# Altium integrated library Texas Instruments Interface RS-232.IntLib: 1272 symbols (part 34 of 37)
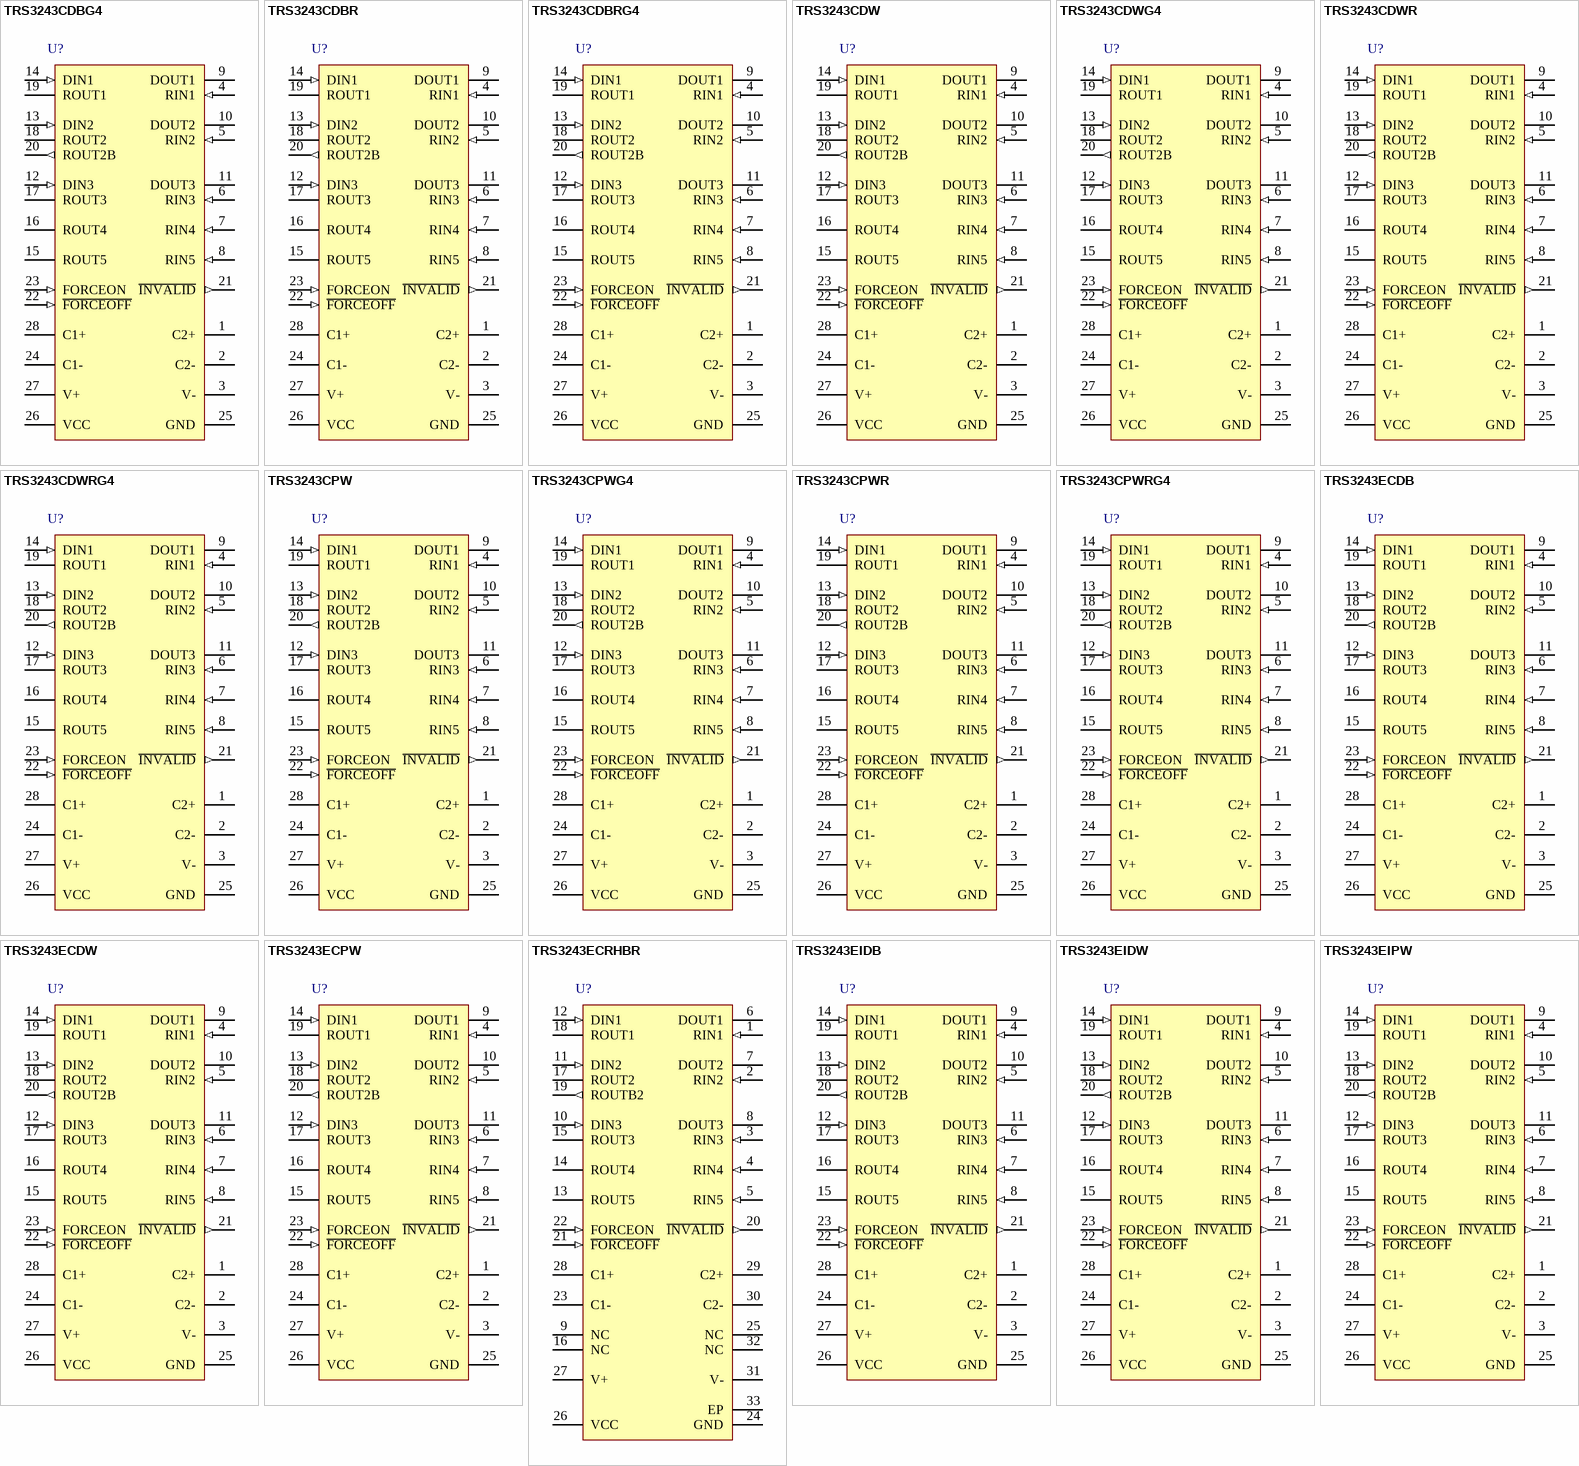
[diagram p87: symbols TRS3243CDBG4 to TRS3243EIPW]

## TRS3243CPWR
designator U?
3-V to 5.5-V Multichannel RS-232 Line Driver / Receiver with ±15-kV ESD (HBM) Protection, 0 to 70 degC, 28-Pin TSSOP (PW), Green (RoHS & no Sb/Br); Drivers Per Package: 3; Receivers Per Package: 5; Supply Voltage(s)(V): 3.3 or 5.0; ESD HBM(kV): +/-15; ICC(Max)(mA): 1; Single Supply: TRUE; DatasheetVersion: SLLS806; PackageVersion: revG, Feb-2011; PackageReference: PW28; PackageDescription: 28-Pin Plastic Thin Small Outline Package 9.7 x 4.4 mm Body ,0.65 mm Pitch; SubFamily: RS-232; RS-232: TRUE; ComponentLink1Description: Manufacturer URL; ComponentLink1URL: www.ti.com; ComponentLink2Description: Datasheet; ComponentLink2URL: http://www.ti.com/general/docs/lit/getliterature.tsp?genericPartNumber=TRS3243&fileType=pdf; ComponentLink3Description: Package Specification; ComponentLink3URL: http://www.ti.com/litv/pdf/mpds364
footprint TI-PW28_N (TSOP, 28-Leads, Body 9.7x4.4mm, Pitch 0.65mm, IPC Medium Density)
footprint TI-PW28_L (TSOP, 28-Leads, Body 9.7x4.4mm, Pitch 0.65mm, IPC High Density)
footprint TI-PW28_M (TSOP, 28-Leads, Body 9.7x4.4mm, Pitch 0.65mm, IPC Low Density)
pins: 1 C2+, 2 C2-, 3 V- (power), 4 RIN1 (in), 5 RIN2 (in), 6 RIN3 (in), 7 RIN4 (in), 8 RIN5 (in), 9 DOUT1 (hiz), 10 DOUT2 (hiz), 11 DOUT3 (hiz), 12 DIN3 (in), 13 DIN2 (in), 14 DIN1 (in), 15 ROUT5 (hiz), 16 ROUT4 (hiz), 17 ROUT3 (hiz), 18 ROUT2 (hiz), 19 ROUT1 (hiz), 20 ROUT2B (out), 21 ~{INVALID} (out), 22 ~{FORCEOFF} (in), 23 FORCEON (in), 24 C1-, 25 GND (power), 26 VCC (power), 27 V+ (power), 28 C1+

## TRS3243CPWRG4
designator U?
3-V to 5.5-V Multichannel RS-232 Line Driver / Receiver with ±15-kV ESD (HBM) Protection, 0 to 70 degC, 28-Pin TSSOP (PW), Green (RoHS & no Sb/Br); Drivers Per Package: 3; Receivers Per Package: 5; Supply Voltage(s)(V): 3.3 or 5.0; ESD HBM(kV): +/-15; ICC(Max)(mA): 1; Single Supply: TRUE; DatasheetVersion: SLLS806; PackageVersion: revG, Feb-2011; PackageReference: PW28; PackageDescription: 28-Pin Plastic Thin Small Outline Package 9.7 x 4.4 mm Body ,0.65 mm Pitch; SubFamily: RS-232; RS-232: TRUE; ComponentLink1Description: Manufacturer URL; ComponentLink1URL: www.ti.com; ComponentLink2Description: Datasheet; ComponentLink2URL: http://www.ti.com/general/docs/lit/getliterature.tsp?genericPartNumber=TRS3243&fileType=pdf; ComponentLink3Description: Package Specification; ComponentLink3URL: http://www.ti.com/litv/pdf/mpds364
footprint TI-PW28_N (TSOP, 28-Leads, Body 9.7x4.4mm, Pitch 0.65mm, IPC Medium Density)
footprint TI-PW28_L (TSOP, 28-Leads, Body 9.7x4.4mm, Pitch 0.65mm, IPC High Density)
footprint TI-PW28_M (TSOP, 28-Leads, Body 9.7x4.4mm, Pitch 0.65mm, IPC Low Density)
pins: 1 C2+, 2 C2-, 3 V- (power), 4 RIN1 (in), 5 RIN2 (in), 6 RIN3 (in), 7 RIN4 (in), 8 RIN5 (in), 9 DOUT1 (hiz), 10 DOUT2 (hiz), 11 DOUT3 (hiz), 12 DIN3 (in), 13 DIN2 (in), 14 DIN1 (in), 15 ROUT5 (hiz), 16 ROUT4 (hiz), 17 ROUT3 (hiz), 18 ROUT2 (hiz), 19 ROUT1 (hiz), 20 ROUT2B (out), 21 ~{INVALID} (out), 22 ~{FORCEOFF} (in), 23 FORCEON (in), 24 C1-, 25 GND (power), 26 VCC (power), 27 V+ (power), 28 C1+

## TRS3243ECDB
designator U?
3-V to 5.5-V Multichannel RS-232 Line Driver / Receiver with ±15-kV IEC ESD Protection, 0 to 70 degC, 28-Pin SSOP (DB), Green (RoHS & no Sb/Br); Drivers Per Package: 3; Receivers Per Package: 5; Supply Voltage(s)(V): 3.3 or 5.0; ESD HBM(kV): +/-15; ICC(Max)(mA): 1; Single Supply: TRUE; DatasheetVersion: SLLS789C; PackageVersion: revE, Dec-2001; PackageReference: DB28; PackageDescription: 28-Pin Plastic Small Outline Package, 10.2 x 5.3 mm Body, 0.65 mm Pitch; SubFamily: RS-232; RS-232: TRUE; IEC-61000-4-2 SUPPORT: TRUE; ComponentLink1Description: Manufacturer URL; ComponentLink1URL: www.ti.com; ComponentLink2Description: Datasheet; ComponentLink2URL: http://www.ti.com/general/docs/lit/getliterature.tsp?genericPartNumber=TRS3243E&fileType=pdf; ComponentLink3Description: Package Specification; ComponentLink3URL: http://www.ti.com/litv/pdf/msso002e
footprint TI-DB28_N (SOP, 28-Leads, Body 10.2x5.3mm, Pitch 0.65mm, IPC Medium Density)
footprint TI-DB28_L (SOP, 28-Leads, Body 10.2x5.3mm, Pitch 0.65mm, IPC High Density)
footprint TI-DB28_M (SOP, 28-Leads, Body 10.2x5.3mm, Pitch 0.65mm, IPC Low Density)
pins: 1 C2+, 2 C2-, 3 V- (power), 4 RIN1 (in), 5 RIN2 (in), 6 RIN3 (in), 7 RIN4 (in), 8 RIN5 (in), 9 DOUT1 (hiz), 10 DOUT2 (hiz), 11 DOUT3 (hiz), 12 DIN3 (in), 13 DIN2 (in), 14 DIN1 (in), 15 ROUT5 (hiz), 16 ROUT4 (hiz), 17 ROUT3 (hiz), 18 ROUT2 (hiz), 19 ROUT1 (hiz), 20 ROUT2B (out), 21 ~{INVALID} (out), 22 ~{FORCEOFF} (in), 23 FORCEON (in), 24 C1-, 25 GND (power), 26 VCC (power), 27 V+ (power), 28 C1+

## TRS3243ECDW
designator U?
3-V to 5.5-V Multichannel RS-232 Line Driver / Receiver with ±15-kV IEC ESD Protection, 0 to 70 degC, 28-Pin SOIC (DW), Green (RoHS & no Sb/Br); Drivers Per Package: 3; Receivers Per Package: 5; Supply Voltage(s)(V): 3.3 or 5.0; ESD HBM(kV): +/-15; ICC(Max)(mA): 1; Single Supply: TRUE; DatasheetVersion: SLLS789C; PackageVersion: revG, Jan-2011; PackageReference: DW28; PackageDescription: 28-Pin Plastic Small Outline Integrated Circuit, 17.9 x 7.5 mm, Pitch 1.27 mm Pitch; SubFamily: RS-232; RS-232: TRUE; IEC-61000-4-2 SUPPORT: TRUE; ComponentLink1Description: Manufacturer URL; ComponentLink1URL: www.ti.com; ComponentLink2Description: Datasheet; ComponentLink2URL: http://www.ti.com/general/docs/lit/getliterature.tsp?genericPartNumber=TRS3243E&fileType=pdf; ComponentLink3Description: Package Specification; ComponentLink3URL: http://www.ti.com/litv/pdf/mpds175a
footprint TI-DW28_N (SOIC, 28-Leads, Body 17.9x7.5mm, Pitch 1.27mm, IPC Medium Density)
footprint TI-DW28_L (SOIC, 28-Leads, Body 17.9x7.5mm, Pitch 1.27mm, IPC High Density)
footprint TI-DW28_M (SOIC, 28-Leads, Body 17.9x7.5mm, Pitch 1.27mm, IPC Low Density)
pins: 1 C2+, 2 C2-, 3 V- (power), 4 RIN1 (in), 5 RIN2 (in), 6 RIN3 (in), 7 RIN4 (in), 8 RIN5 (in), 9 DOUT1 (hiz), 10 DOUT2 (hiz), 11 DOUT3 (hiz), 12 DIN3 (in), 13 DIN2 (in), 14 DIN1 (in), 15 ROUT5 (hiz), 16 ROUT4 (hiz), 17 ROUT3 (hiz), 18 ROUT2 (hiz), 19 ROUT1 (hiz), 20 ROUT2B (out), 21 ~{INVALID} (out), 22 ~{FORCEOFF} (in), 23 FORCEON (in), 24 C1-, 25 GND (power), 26 VCC (power), 27 V+ (power), 28 C1+

## TRS3243ECPW
designator U?
3-V to 5.5-V Multichannel RS-232 Line Driver / Receiver with ±15-kV IEC ESD Protection, 0 to 70 degC, 28-Pin TSSOP (PW), Green (RoHS & no Sb/Br); Drivers Per Package: 3; Receivers Per Package: 5; Supply Voltage(s)(V): 3.3 or 5.0; ESD HBM(kV): +/-15; ICC(Max)(mA): 1; Single Supply: TRUE; DatasheetVersion: SLLS789C; PackageVersion: revG, Feb-2011; PackageReference: PW28; PackageDescription: 28-Pin Plastic Thin Small Outline Package 9.7 x 4.4 mm Body ,0.65 mm Pitch; SubFamily: RS-232; RS-232: TRUE; IEC-61000-4-2 SUPPORT: TRUE; ComponentLink1Description: Manufacturer URL; ComponentLink1URL: www.ti.com; ComponentLink2Description: Datasheet; ComponentLink2URL: http://www.ti.com/general/docs/lit/getliterature.tsp?genericPartNumber=TRS3243E&fileType=pdf; ComponentLink3Description: Package Specification; ComponentLink3URL: http://www.ti.com/litv/pdf/mpds364
footprint TI-PW28_N (TSOP, 28-Leads, Body 9.7x4.4mm, Pitch 0.65mm, IPC Medium Density)
footprint TI-PW28_L (TSOP, 28-Leads, Body 9.7x4.4mm, Pitch 0.65mm, IPC High Density)
footprint TI-PW28_M (TSOP, 28-Leads, Body 9.7x4.4mm, Pitch 0.65mm, IPC Low Density)
pins: 1 C2+, 2 C2-, 3 V- (power), 4 RIN1 (in), 5 RIN2 (in), 6 RIN3 (in), 7 RIN4 (in), 8 RIN5 (in), 9 DOUT1 (hiz), 10 DOUT2 (hiz), 11 DOUT3 (hiz), 12 DIN3 (in), 13 DIN2 (in), 14 DIN1 (in), 15 ROUT5 (hiz), 16 ROUT4 (hiz), 17 ROUT3 (hiz), 18 ROUT2 (hiz), 19 ROUT1 (hiz), 20 ROUT2B (out), 21 ~{INVALID} (out), 22 ~{FORCEOFF} (in), 23 FORCEON (in), 24 C1-, 25 GND (power), 26 VCC (power), 27 V+ (power), 28 C1+

## TRS3243ECRHBR
designator U?
3-V to 5.5-V Multichannel RS-232 Line Driver / Receiver with ±15-kV IEC ESD Protection, 0 to 70 degC, 32-Pin QFN (RHB), Green (RoHS & no Sb/Br); Drivers Per Package: 3; Receivers Per Package: 5; Supply Voltage(s)(V): 3.3 or 5.0; ESD HBM(kV): +/-15; ICC(Max)(mA): 1; Single Supply: TRUE; DatasheetVersion: SLLS789C; PackageVersion: revD, Jun-2011; PackageReference: RHB32-3450X3450TP; PackageDescription: 32-Pin Plastic Quad Flat No-Lead, 5 x 5 mm Body, 0.5 mm Pitch, 3.45 x 3.45 mm Exposed Pad; SubFamily: RS-232; RS-232: TRUE; IEC-61000-4-2 SUPPORT: TRUE; ComponentLink1Description: Manufacturer URL; ComponentLink1URL: www.ti.com; ComponentLink2Description: Datasheet; ComponentLink2URL: http://www.ti.com/general/docs/lit/getliterature.tsp?genericPartNumber=TRS3243E&fileType=pdf; ComponentLink3Description: Package Specification; ComponentLink3URL: http://www.ti.com/litv/pdf/mpqf130c
footprint TI-RHB32-3450X3450TP (QFN, 32-Leads, Body 5x5mm, Pitch 0.5mm, Thermal Pad 3.45x3.45mm, TI Recommended)
pins: 1 RIN1 (in), 2 RIN2 (in), 3 RIN3 (in), 4 RIN4 (in), 5 RIN5 (in), 6 DOUT1 (hiz), 7 DOUT2 (hiz), 8 DOUT3 (hiz), 9 NC, 10 DIN3 (in), 11 DIN2 (in), 12 DIN1 (in), 13 ROUT5 (hiz), 14 ROUT4 (hiz), 15 ROUT3 (hiz), 16 NC, 17 ROUT2 (hiz), 18 ROUT1 (hiz), 19 ROUTB2 (out), 20 ~{INVALID} (out), 21 ~{FORCEOFF} (in), 22 FORCEON (in), 23 C1-, 24 GND (power), 25 NC, 26 VCC (power), 27 V+ (power), 28 C1+, 29 C2+, 30 C2-, 31 V- (power), 32 NC, 33 EP (power)

## TRS3243EIDB
designator U?
3-V to 5.5-V Multichannel RS-232 Line Driver / Receiver with ±15-kV IEC ESD Protection, -40 to 85 degC, 28-Pin SSOP (DB), Green (RoHS & no Sb/Br); Drivers Per Package: 3; Receivers Per Package: 5; Supply Voltage(s)(V): 3.3 or 5.0; ESD HBM(kV): +/-15; ICC(Max)(mA): 1; Single Supply: TRUE; DatasheetVersion: SLLS789C; PackageVersion: revE, Dec-2001; PackageReference: DB28; PackageDescription: 28-Pin Plastic Small Outline Package, 10.2 x 5.3 mm Body, 0.65 mm Pitch; SubFamily: RS-232; RS-232: TRUE; IEC-61000-4-2 SUPPORT: TRUE; ComponentLink1Description: Manufacturer URL; ComponentLink1URL: www.ti.com; ComponentLink2Description: Datasheet; ComponentLink2URL: http://www.ti.com/general/docs/lit/getliterature.tsp?genericPartNumber=TRS3243E&fileType=pdf; ComponentLink3Description: Package Specification; ComponentLink3URL: http://www.ti.com/litv/pdf/msso002e
footprint TI-DB28_N (SOP, 28-Leads, Body 10.2x5.3mm, Pitch 0.65mm, IPC Medium Density)
footprint TI-DB28_L (SOP, 28-Leads, Body 10.2x5.3mm, Pitch 0.65mm, IPC High Density)
footprint TI-DB28_M (SOP, 28-Leads, Body 10.2x5.3mm, Pitch 0.65mm, IPC Low Density)
pins: 1 C2+, 2 C2-, 3 V- (power), 4 RIN1 (in), 5 RIN2 (in), 6 RIN3 (in), 7 RIN4 (in), 8 RIN5 (in), 9 DOUT1 (hiz), 10 DOUT2 (hiz), 11 DOUT3 (hiz), 12 DIN3 (in), 13 DIN2 (in), 14 DIN1 (in), 15 ROUT5 (hiz), 16 ROUT4 (hiz), 17 ROUT3 (hiz), 18 ROUT2 (hiz), 19 ROUT1 (hiz), 20 ROUT2B (out), 21 ~{INVALID} (out), 22 ~{FORCEOFF} (in), 23 FORCEON (in), 24 C1-, 25 GND (power), 26 VCC (power), 27 V+ (power), 28 C1+

## TRS3243EIDW
designator U?
3-V to 5.5-V Multichannel RS-232 Line Driver / Receiver with ±15-kV IEC ESD Protection, -40 to 85 degC, 28-Pin SOIC (DW), Green (RoHS & no Sb/Br); Drivers Per Package: 3; Receivers Per Package: 5; Supply Voltage(s)(V): 3.3 or 5.0; ESD HBM(kV): +/-15; ICC(Max)(mA): 1; Single Supply: TRUE; DatasheetVersion: SLLS789C; PackageVersion: revG, Jan-2011; PackageReference: DW28; PackageDescription: 28-Pin Plastic Small Outline Integrated Circuit, 17.9 x 7.5 mm, Pitch 1.27 mm Pitch; SubFamily: RS-232; RS-232: TRUE; IEC-61000-4-2 SUPPORT: TRUE; ComponentLink1Description: Manufacturer URL; ComponentLink1URL: www.ti.com; ComponentLink2Description: Datasheet; ComponentLink2URL: http://www.ti.com/general/docs/lit/getliterature.tsp?genericPartNumber=TRS3243E&fileType=pdf; ComponentLink3Description: Package Specification; ComponentLink3URL: http://www.ti.com/litv/pdf/mpds175a
footprint TI-DW28_N (SOIC, 28-Leads, Body 17.9x7.5mm, Pitch 1.27mm, IPC Medium Density)
footprint TI-DW28_L (SOIC, 28-Leads, Body 17.9x7.5mm, Pitch 1.27mm, IPC High Density)
footprint TI-DW28_M (SOIC, 28-Leads, Body 17.9x7.5mm, Pitch 1.27mm, IPC Low Density)
pins: 1 C2+, 2 C2-, 3 V- (power), 4 RIN1 (in), 5 RIN2 (in), 6 RIN3 (in), 7 RIN4 (in), 8 RIN5 (in), 9 DOUT1 (hiz), 10 DOUT2 (hiz), 11 DOUT3 (hiz), 12 DIN3 (in), 13 DIN2 (in), 14 DIN1 (in), 15 ROUT5 (hiz), 16 ROUT4 (hiz), 17 ROUT3 (hiz), 18 ROUT2 (hiz), 19 ROUT1 (hiz), 20 ROUT2B (out), 21 ~{INVALID} (out), 22 ~{FORCEOFF} (in), 23 FORCEON (in), 24 C1-, 25 GND (power), 26 VCC (power), 27 V+ (power), 28 C1+

## TRS3243EIPW
designator U?
3-V to 5.5-V Multichannel RS-232 Line Driver / Receiver with ±15-kV IEC ESD Protection, -40 to 85 degC, 28-Pin TSSOP (PW), Green (RoHS & no Sb/Br); Drivers Per Package: 3; Receivers Per Package: 5; Supply Voltage(s)(V): 3.3 or 5.0; ESD HBM(kV): +/-15; ICC(Max)(mA): 1; Single Supply: TRUE; DatasheetVersion: SLLS789C; PackageVersion: revG, Feb-2011; PackageReference: PW28; PackageDescription: 28-Pin Plastic Thin Small Outline Package 9.7 x 4.4 mm Body ,0.65 mm Pitch; SubFamily: RS-232; RS-232: TRUE; IEC-61000-4-2 SUPPORT: TRUE; ComponentLink1Description: Manufacturer URL; ComponentLink1URL: www.ti.com; ComponentLink2Description: Datasheet; ComponentLink2URL: http://www.ti.com/general/docs/lit/getliterature.tsp?genericPartNumber=TRS3243E&fileType=pdf; ComponentLink3Description: Package Specification; ComponentLink3URL: http://www.ti.com/litv/pdf/mpds364
footprint TI-PW28_N (TSOP, 28-Leads, Body 9.7x4.4mm, Pitch 0.65mm, IPC Medium Density)
footprint TI-PW28_L (TSOP, 28-Leads, Body 9.7x4.4mm, Pitch 0.65mm, IPC High Density)
footprint TI-PW28_M (TSOP, 28-Leads, Body 9.7x4.4mm, Pitch 0.65mm, IPC Low Density)
pins: 1 C2+, 2 C2-, 3 V- (power), 4 RIN1 (in), 5 RIN2 (in), 6 RIN3 (in), 7 RIN4 (in), 8 RIN5 (in), 9 DOUT1 (hiz), 10 DOUT2 (hiz), 11 DOUT3 (hiz), 12 DIN3 (in), 13 DIN2 (in), 14 DIN1 (in), 15 ROUT5 (hiz), 16 ROUT4 (hiz), 17 ROUT3 (hiz), 18 ROUT2 (hiz), 19 ROUT1 (hiz), 20 ROUT2B (out), 21 ~{INVALID} (out), 22 ~{FORCEOFF} (in), 23 FORCEON (in), 24 C1-, 25 GND (power), 26 VCC (power), 27 V+ (power), 28 C1+

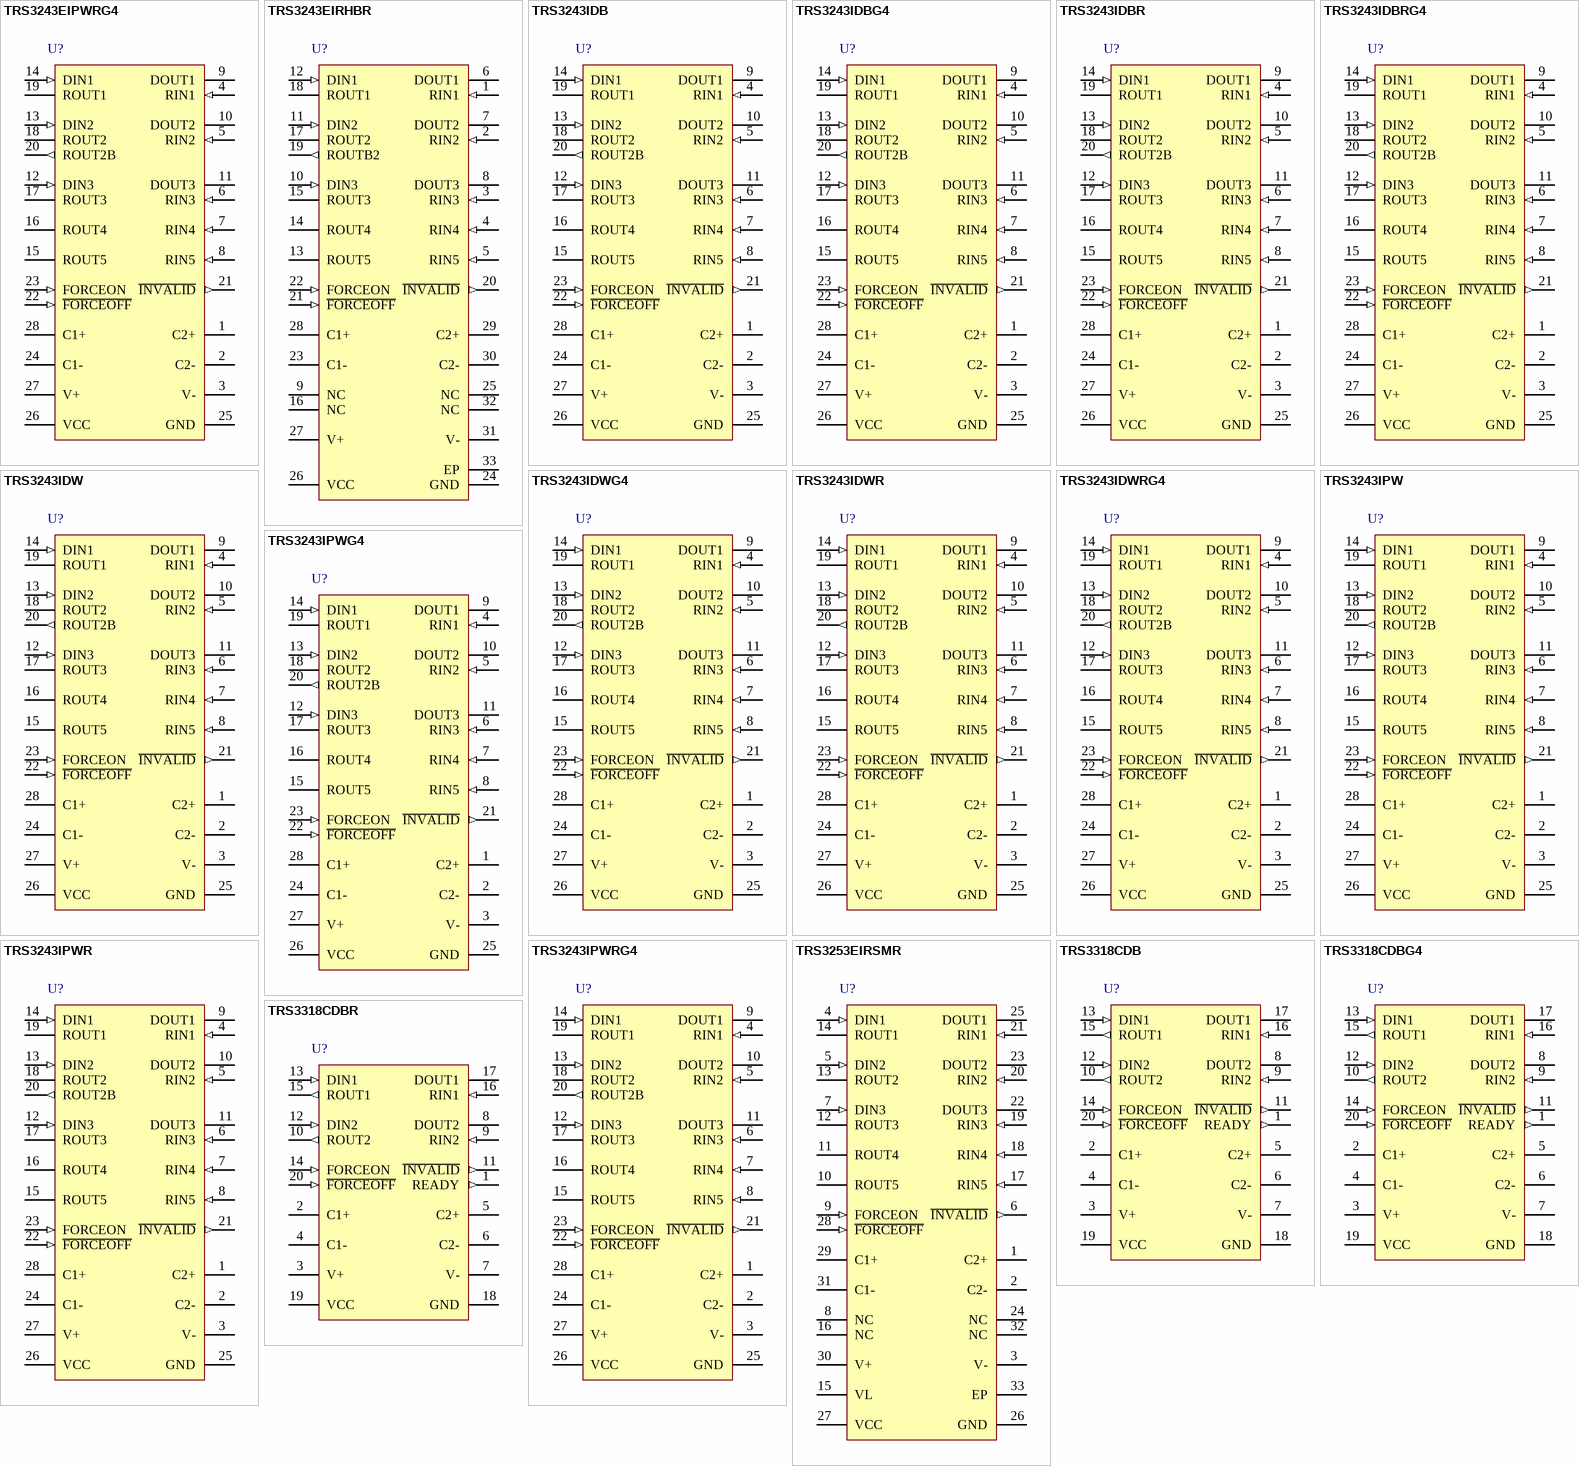
[diagram p50: symbols TRS3243EIPWRG4 to TRS3318CDBR]

## TRS3243EIPWRG4
designator U?
3-V to 5.5-V Multichannel RS-232 Line Driver / Receiver with ±15-kV IEC ESD Protection, -40 to 85 degC, 28-Pin TSSOP (PW) , Green (RoHS & no Sb/Br); Drivers Per Package: 3; Receivers Per Package: 5; Supply Voltage(s)(V): 3.3 or 5.0; ESD HBM(kV): +/-15; ICC(Max)(mA): 1; Single Supply: TRUE; DatasheetVersion: SLLS789C; PackageVersion: revG, Feb-2011; PackageReference: PW28; PackageDescription: 28-Pin Plastic Thin Small Outline Package 9.7 x 4.4 mm Body ,0.65 mm Pitch; SubFamily: RS-232; RS-232: TRUE; IEC-61000-4-2 SUPPORT: TRUE; ComponentLink1Description: Manufacturer URL; ComponentLink1URL: www.ti.com; ComponentLink2Description: Datasheet; ComponentLink2URL: http://www.ti.com/general/docs/lit/getliterature.tsp?genericPartNumber=TRS3243E&fileType=pdf; ComponentLink3Description: Package Specification; ComponentLink3URL: http://www.ti.com/litv/pdf/mpds364
footprint TI-PW28_N (TSOP, 28-Leads, Body 9.7x4.4mm, Pitch 0.65mm, IPC Medium Density)
footprint TI-PW28_L (TSOP, 28-Leads, Body 9.7x4.4mm, Pitch 0.65mm, IPC High Density)
footprint TI-PW28_M (TSOP, 28-Leads, Body 9.7x4.4mm, Pitch 0.65mm, IPC Low Density)
pins: 1 C2+, 2 C2-, 3 V- (power), 4 RIN1 (in), 5 RIN2 (in), 6 RIN3 (in), 7 RIN4 (in), 8 RIN5 (in), 9 DOUT1 (hiz), 10 DOUT2 (hiz), 11 DOUT3 (hiz), 12 DIN3 (in), 13 DIN2 (in), 14 DIN1 (in), 15 ROUT5 (hiz), 16 ROUT4 (hiz), 17 ROUT3 (hiz), 18 ROUT2 (hiz), 19 ROUT1 (hiz), 20 ROUT2B (out), 21 ~{INVALID} (out), 22 ~{FORCEOFF} (in), 23 FORCEON (in), 24 C1-, 25 GND (power), 26 VCC (power), 27 V+ (power), 28 C1+

## TRS3243EIRHBR
designator U?
3-V to 5.5-V Multichannel RS-232 Line Driver / Receiver with ±15-kV IEC ESD Protection, -40 to 85 degC, 32-Pin QFN (RHB), Green (RoHS & no Sb/Br); Drivers Per Package: 3; Receivers Per Package: 5; Supply Voltage(s)(V): 3.3 or 5.0; ESD HBM(kV): +/-15; ICC(Max)(mA): 1; Single Supply: TRUE; DatasheetVersion: SLLS789C; PackageVersion: revD, Jun-2011; PackageReference: RHB32-3450X3450TP; PackageDescription: 32-Pin Plastic Quad Flat No-Lead, 5 x 5 mm Body, 0.5 mm Pitch, 3.45 x 3.45 mm Exposed Pad; SubFamily: RS-232; RS-232: TRUE; IEC-61000-4-2 SUPPORT: TRUE; ComponentLink1Description: Manufacturer URL; ComponentLink1URL: www.ti.com; ComponentLink2Description: Datasheet; ComponentLink2URL: http://www.ti.com/general/docs/lit/getliterature.tsp?genericPartNumber=TRS3243E&fileType=pdf; ComponentLink3Description: Package Specification; ComponentLink3URL: http://www.ti.com/litv/pdf/mpqf130c
footprint TI-RHB32-3450X3450TP (QFN, 32-Leads, Body 5x5mm, Pitch 0.5mm, Thermal Pad 3.45x3.45mm, TI Recommended)
pins: 1 RIN1 (in), 2 RIN2 (in), 3 RIN3 (in), 4 RIN4 (in), 5 RIN5 (in), 6 DOUT1 (hiz), 7 DOUT2 (hiz), 8 DOUT3 (hiz), 9 NC, 10 DIN3 (in), 11 DIN2 (in), 12 DIN1 (in), 13 ROUT5 (hiz), 14 ROUT4 (hiz), 15 ROUT3 (hiz), 16 NC, 17 ROUT2 (hiz), 18 ROUT1 (hiz), 19 ROUTB2 (out), 20 ~{INVALID} (out), 21 ~{FORCEOFF} (in), 22 FORCEON (in), 23 C1-, 24 GND (power), 25 NC, 26 VCC (power), 27 V+ (power), 28 C1+, 29 C2+, 30 C2-, 31 V- (power), 32 NC, 33 EP (power)

## TRS3243IDB
designator U?
3-V to 5.5-V Multichannel RS-232 Line Driver / Receiver with ±15-kV ESD (HBM) Protection, -40 to 85 degC, 28-Pin SSOP (DB), Green (RoHS & no Sb/Br); Drivers Per Package: 3; Receivers Per Package: 5; Supply Voltage(s)(V): 3.3 or 5.0; ESD HBM(kV): +/-15; ICC(Max)(mA): 1; Single Supply: TRUE; DatasheetVersion: SLLS806; PackageVersion: revE, Dec-2001; PackageReference: DB28; PackageDescription: 28-Pin Plastic Small Outline Package, 10.2 x 5.3 mm Body, 0.65 mm Pitch; SubFamily: RS-232; RS-232: TRUE; ComponentLink1Description: Manufacturer URL; ComponentLink1URL: www.ti.com; ComponentLink2Description: Datasheet; ComponentLink2URL: http://www.ti.com/general/docs/lit/getliterature.tsp?genericPartNumber=TRS3243&fileType=pdf; ComponentLink3Description: Package Specification; ComponentLink3URL: http://www.ti.com/litv/pdf/msso002e
footprint TI-DB28_N (SOP, 28-Leads, Body 10.2x5.3mm, Pitch 0.65mm, IPC Medium Density)
footprint TI-DB28_L (SOP, 28-Leads, Body 10.2x5.3mm, Pitch 0.65mm, IPC High Density)
footprint TI-DB28_M (SOP, 28-Leads, Body 10.2x5.3mm, Pitch 0.65mm, IPC Low Density)
pins: 1 C2+, 2 C2-, 3 V- (power), 4 RIN1 (in), 5 RIN2 (in), 6 RIN3 (in), 7 RIN4 (in), 8 RIN5 (in), 9 DOUT1 (hiz), 10 DOUT2 (hiz), 11 DOUT3 (hiz), 12 DIN3 (in), 13 DIN2 (in), 14 DIN1 (in), 15 ROUT5 (hiz), 16 ROUT4 (hiz), 17 ROUT3 (hiz), 18 ROUT2 (hiz), 19 ROUT1 (hiz), 20 ROUT2B (out), 21 ~{INVALID} (out), 22 ~{FORCEOFF} (in), 23 FORCEON (in), 24 C1-, 25 GND (power), 26 VCC (power), 27 V+ (power), 28 C1+

## TRS3243IDBG4
designator U?
3-V to 5.5-V Multichannel RS-232 Line Driver / Receiver with ±15-kV ESD (HBM) Protection, -40 to 85 degC, 28-Pin SSOP (DB), Green (RoHS & no Sb/Br); Drivers Per Package: 3; Receivers Per Package: 5; Supply Voltage(s)(V): 3.3 or 5.0; ESD HBM(kV): +/-15; ICC(Max)(mA): 1; Single Supply: TRUE; DatasheetVersion: SLLS806; PackageVersion: revE, Dec-2001; PackageReference: DB28; PackageDescription: 28-Pin Plastic Small Outline Package, 10.2 x 5.3 mm Body, 0.65 mm Pitch; SubFamily: RS-232; RS-232: TRUE; ComponentLink1Description: Manufacturer URL; ComponentLink1URL: www.ti.com; ComponentLink2Description: Datasheet; ComponentLink2URL: http://www.ti.com/general/docs/lit/getliterature.tsp?genericPartNumber=TRS3243&fileType=pdf; ComponentLink3Description: Package Specification; ComponentLink3URL: http://www.ti.com/litv/pdf/msso002e
footprint TI-DB28_N (SOP, 28-Leads, Body 10.2x5.3mm, Pitch 0.65mm, IPC Medium Density)
footprint TI-DB28_L (SOP, 28-Leads, Body 10.2x5.3mm, Pitch 0.65mm, IPC High Density)
footprint TI-DB28_M (SOP, 28-Leads, Body 10.2x5.3mm, Pitch 0.65mm, IPC Low Density)
pins: 1 C2+, 2 C2-, 3 V- (power), 4 RIN1 (in), 5 RIN2 (in), 6 RIN3 (in), 7 RIN4 (in), 8 RIN5 (in), 9 DOUT1 (hiz), 10 DOUT2 (hiz), 11 DOUT3 (hiz), 12 DIN3 (in), 13 DIN2 (in), 14 DIN1 (in), 15 ROUT5 (hiz), 16 ROUT4 (hiz), 17 ROUT3 (hiz), 18 ROUT2 (hiz), 19 ROUT1 (hiz), 20 ROUT2B (out), 21 ~{INVALID} (out), 22 ~{FORCEOFF} (in), 23 FORCEON (in), 24 C1-, 25 GND (power), 26 VCC (power), 27 V+ (power), 28 C1+

## TRS3243IDBR
designator U?
3-V to 5.5-V Multichannel RS-232 Line Driver / Receiver with ±15-kV ESD (HBM) Protection, -40 to 85 degC, 28-Pin SSOP (DB), Green (RoHS & no Sb/Br); Drivers Per Package: 3; Receivers Per Package: 5; Supply Voltage(s)(V): 3.3 or 5.0; ESD HBM(kV): +/-15; ICC(Max)(mA): 1; Single Supply: TRUE; DatasheetVersion: SLLS806; PackageVersion: revE, Dec-2001; PackageReference: DB28; PackageDescription: 28-Pin Plastic Small Outline Package, 10.2 x 5.3 mm Body, 0.65 mm Pitch; SubFamily: RS-232; RS-232: TRUE; ComponentLink1Description: Manufacturer URL; ComponentLink1URL: www.ti.com; ComponentLink2Description: Datasheet; ComponentLink2URL: http://www.ti.com/general/docs/lit/getliterature.tsp?genericPartNumber=TRS3243&fileType=pdf; ComponentLink3Description: Package Specification; ComponentLink3URL: http://www.ti.com/litv/pdf/msso002e
footprint TI-DB28_N (SOP, 28-Leads, Body 10.2x5.3mm, Pitch 0.65mm, IPC Medium Density)
footprint TI-DB28_L (SOP, 28-Leads, Body 10.2x5.3mm, Pitch 0.65mm, IPC High Density)
footprint TI-DB28_M (SOP, 28-Leads, Body 10.2x5.3mm, Pitch 0.65mm, IPC Low Density)
pins: 1 C2+, 2 C2-, 3 V- (power), 4 RIN1 (in), 5 RIN2 (in), 6 RIN3 (in), 7 RIN4 (in), 8 RIN5 (in), 9 DOUT1 (hiz), 10 DOUT2 (hiz), 11 DOUT3 (hiz), 12 DIN3 (in), 13 DIN2 (in), 14 DIN1 (in), 15 ROUT5 (hiz), 16 ROUT4 (hiz), 17 ROUT3 (hiz), 18 ROUT2 (hiz), 19 ROUT1 (hiz), 20 ROUT2B (out), 21 ~{INVALID} (out), 22 ~{FORCEOFF} (in), 23 FORCEON (in), 24 C1-, 25 GND (power), 26 VCC (power), 27 V+ (power), 28 C1+

## TRS3243IDBRG4
designator U?
3-V to 5.5-V Multichannel RS-232 Line Driver / Receiver with ±15-kV ESD (HBM) Protection, -40 to 85 degC, 28-Pin SSOP (DB), Green (RoHS & no Sb/Br); Drivers Per Package: 3; Receivers Per Package: 5; Supply Voltage(s)(V): 3.3 or 5.0; ESD HBM(kV): +/-15; ICC(Max)(mA): 1; Single Supply: TRUE; DatasheetVersion: SLLS806; PackageVersion: revE, Dec-2001; PackageReference: DB28; PackageDescription: 28-Pin Plastic Small Outline Package, 10.2 x 5.3 mm Body, 0.65 mm Pitch; SubFamily: RS-232; RS-232: TRUE; ComponentLink1Description: Manufacturer URL; ComponentLink1URL: www.ti.com; ComponentLink2Description: Datasheet; ComponentLink2URL: http://www.ti.com/general/docs/lit/getliterature.tsp?genericPartNumber=TRS3243&fileType=pdf; ComponentLink3Description: Package Specification; ComponentLink3URL: http://www.ti.com/litv/pdf/msso002e
footprint TI-DB28_N (SOP, 28-Leads, Body 10.2x5.3mm, Pitch 0.65mm, IPC Medium Density)
footprint TI-DB28_L (SOP, 28-Leads, Body 10.2x5.3mm, Pitch 0.65mm, IPC High Density)
footprint TI-DB28_M (SOP, 28-Leads, Body 10.2x5.3mm, Pitch 0.65mm, IPC Low Density)
pins: 1 C2+, 2 C2-, 3 V- (power), 4 RIN1 (in), 5 RIN2 (in), 6 RIN3 (in), 7 RIN4 (in), 8 RIN5 (in), 9 DOUT1 (hiz), 10 DOUT2 (hiz), 11 DOUT3 (hiz), 12 DIN3 (in), 13 DIN2 (in), 14 DIN1 (in), 15 ROUT5 (hiz), 16 ROUT4 (hiz), 17 ROUT3 (hiz), 18 ROUT2 (hiz), 19 ROUT1 (hiz), 20 ROUT2B (out), 21 ~{INVALID} (out), 22 ~{FORCEOFF} (in), 23 FORCEON (in), 24 C1-, 25 GND (power), 26 VCC (power), 27 V+ (power), 28 C1+

## TRS3243IDW
designator U?
3-V to 5.5-V Multichannel RS-232 Line Driver / Receiver with ±15-kV ESD (HBM) Protection, -40 to 85 degC, 28-Pin SOIC (DW), Green (RoHS & no Sb/Br); Drivers Per Package: 3; Receivers Per Package: 5; Supply Voltage(s)(V): 3.3 or 5.0; ESD HBM(kV): +/-15; ICC(Max)(mA): 1; Single Supply: TRUE; DatasheetVersion: SLLS806; PackageVersion: revG, Jan-2011; PackageReference: DW28; PackageDescription: 28-Pin Plastic Small Outline Integrated Circuit, 17.9 x 7.5 mm, Pitch 1.27 mm Pitch; SubFamily: RS-232; RS-232: TRUE; ComponentLink1Description: Manufacturer URL; ComponentLink1URL: www.ti.com; ComponentLink2Description: Datasheet; ComponentLink2URL: http://www.ti.com/general/docs/lit/getliterature.tsp?genericPartNumber=TRS3243&fileType=pdf; ComponentLink3Description: Package Specification; ComponentLink3URL: http://www.ti.com/litv/pdf/mpds175a
footprint TI-DW28_N (SOIC, 28-Leads, Body 17.9x7.5mm, Pitch 1.27mm, IPC Medium Density)
footprint TI-DW28_L (SOIC, 28-Leads, Body 17.9x7.5mm, Pitch 1.27mm, IPC High Density)
footprint TI-DW28_M (SOIC, 28-Leads, Body 17.9x7.5mm, Pitch 1.27mm, IPC Low Density)
pins: 1 C2+, 2 C2-, 3 V- (power), 4 RIN1 (in), 5 RIN2 (in), 6 RIN3 (in), 7 RIN4 (in), 8 RIN5 (in), 9 DOUT1 (hiz), 10 DOUT2 (hiz), 11 DOUT3 (hiz), 12 DIN3 (in), 13 DIN2 (in), 14 DIN1 (in), 15 ROUT5 (hiz), 16 ROUT4 (hiz), 17 ROUT3 (hiz), 18 ROUT2 (hiz), 19 ROUT1 (hiz), 20 ROUT2B (out), 21 ~{INVALID} (out), 22 ~{FORCEOFF} (in), 23 FORCEON (in), 24 C1-, 25 GND (power), 26 VCC (power), 27 V+ (power), 28 C1+

## TRS3243IDWG4
designator U?
3-V to 5.5-V Multichannel RS-232 Line Driver / Receiver with ±15-kV ESD (HBM) Protection, -40 to 85 degC, 28-Pin SOIC (DW), Green (RoHS & no Sb/Br); Drivers Per Package: 3; Receivers Per Package: 5; Supply Voltage(s)(V): 3.3 or 5.0; ESD HBM(kV): +/-15; ICC(Max)(mA): 1; Single Supply: TRUE; DatasheetVersion: SLLS806; PackageVersion: revG, Jan-2011; PackageReference: DW28; PackageDescription: 28-Pin Plastic Small Outline Integrated Circuit, 17.9 x 7.5 mm, Pitch 1.27 mm Pitch; SubFamily: RS-232; RS-232: TRUE; ComponentLink1Description: Manufacturer URL; ComponentLink1URL: www.ti.com; ComponentLink2Description: Datasheet; ComponentLink2URL: http://www.ti.com/general/docs/lit/getliterature.tsp?genericPartNumber=TRS3243&fileType=pdf; ComponentLink3Description: Package Specification; ComponentLink3URL: http://www.ti.com/litv/pdf/mpds175a
footprint TI-DW28_N (SOIC, 28-Leads, Body 17.9x7.5mm, Pitch 1.27mm, IPC Medium Density)
footprint TI-DW28_L (SOIC, 28-Leads, Body 17.9x7.5mm, Pitch 1.27mm, IPC High Density)
footprint TI-DW28_M (SOIC, 28-Leads, Body 17.9x7.5mm, Pitch 1.27mm, IPC Low Density)
pins: 1 C2+, 2 C2-, 3 V- (power), 4 RIN1 (in), 5 RIN2 (in), 6 RIN3 (in), 7 RIN4 (in), 8 RIN5 (in), 9 DOUT1 (hiz), 10 DOUT2 (hiz), 11 DOUT3 (hiz), 12 DIN3 (in), 13 DIN2 (in), 14 DIN1 (in), 15 ROUT5 (hiz), 16 ROUT4 (hiz), 17 ROUT3 (hiz), 18 ROUT2 (hiz), 19 ROUT1 (hiz), 20 ROUT2B (out), 21 ~{INVALID} (out), 22 ~{FORCEOFF} (in), 23 FORCEON (in), 24 C1-, 25 GND (power), 26 VCC (power), 27 V+ (power), 28 C1+

## TRS3243IDWR
designator U?
3-V to 5.5-V Multichannel RS-232 Line Driver / Receiver with ±15-kV ESD (HBM) Protection, -40 to 85 degC, 28-Pin SOIC (DW), Green (RoHS & no Sb/Br); Drivers Per Package: 3; Receivers Per Package: 5; Supply Voltage(s)(V): 3.3 or 5.0; ESD HBM(kV): +/-15; ICC(Max)(mA): 1; Single Supply: TRUE; DatasheetVersion: SLLS806; PackageVersion: revG, Jan-2011; PackageReference: DW28; PackageDescription: 28-Pin Plastic Small Outline Integrated Circuit, 17.9 x 7.5 mm, Pitch 1.27 mm Pitch; SubFamily: RS-232; RS-232: TRUE; ComponentLink1Description: Manufacturer URL; ComponentLink1URL: www.ti.com; ComponentLink2Description: Datasheet; ComponentLink2URL: http://www.ti.com/general/docs/lit/getliterature.tsp?genericPartNumber=TRS3243&fileType=pdf; ComponentLink3Description: Package Specification; ComponentLink3URL: http://www.ti.com/litv/pdf/mpds175a
footprint TI-DW28_N (SOIC, 28-Leads, Body 17.9x7.5mm, Pitch 1.27mm, IPC Medium Density)
footprint TI-DW28_L (SOIC, 28-Leads, Body 17.9x7.5mm, Pitch 1.27mm, IPC High Density)
footprint TI-DW28_M (SOIC, 28-Leads, Body 17.9x7.5mm, Pitch 1.27mm, IPC Low Density)
pins: 1 C2+, 2 C2-, 3 V- (power), 4 RIN1 (in), 5 RIN2 (in), 6 RIN3 (in), 7 RIN4 (in), 8 RIN5 (in), 9 DOUT1 (hiz), 10 DOUT2 (hiz), 11 DOUT3 (hiz), 12 DIN3 (in), 13 DIN2 (in), 14 DIN1 (in), 15 ROUT5 (hiz), 16 ROUT4 (hiz), 17 ROUT3 (hiz), 18 ROUT2 (hiz), 19 ROUT1 (hiz), 20 ROUT2B (out), 21 ~{INVALID} (out), 22 ~{FORCEOFF} (in), 23 FORCEON (in), 24 C1-, 25 GND (power), 26 VCC (power), 27 V+ (power), 28 C1+

## TRS3243IDWRG4
designator U?
3-V to 5.5-V Multichannel RS-232 Line Driver / Receiver with ±15-kV ESD (HBM) Protection, -40 to 85 degC, 28-Pin SOIC (DW), Green (RoHS & no Sb/Br); Drivers Per Package: 3; Receivers Per Package: 5; Supply Voltage(s)(V): 3.3 or 5.0; ESD HBM(kV): +/-15; ICC(Max)(mA): 1; Single Supply: TRUE; DatasheetVersion: SLLS806; PackageVersion: revG, Jan-2011; PackageReference: DW28; PackageDescription: 28-Pin Plastic Small Outline Integrated Circuit, 17.9 x 7.5 mm, Pitch 1.27 mm Pitch; SubFamily: RS-232; RS-232: TRUE; ComponentLink1Description: Manufacturer URL; ComponentLink1URL: www.ti.com; ComponentLink2Description: Datasheet; ComponentLink2URL: http://www.ti.com/general/docs/lit/getliterature.tsp?genericPartNumber=TRS3243&fileType=pdf; ComponentLink3Description: Package Specification; ComponentLink3URL: http://www.ti.com/litv/pdf/mpds175a
footprint TI-DW28_N (SOIC, 28-Leads, Body 17.9x7.5mm, Pitch 1.27mm, IPC Medium Density)
footprint TI-DW28_L (SOIC, 28-Leads, Body 17.9x7.5mm, Pitch 1.27mm, IPC High Density)
footprint TI-DW28_M (SOIC, 28-Leads, Body 17.9x7.5mm, Pitch 1.27mm, IPC Low Density)
pins: 1 C2+, 2 C2-, 3 V- (power), 4 RIN1 (in), 5 RIN2 (in), 6 RIN3 (in), 7 RIN4 (in), 8 RIN5 (in), 9 DOUT1 (hiz), 10 DOUT2 (hiz), 11 DOUT3 (hiz), 12 DIN3 (in), 13 DIN2 (in), 14 DIN1 (in), 15 ROUT5 (hiz), 16 ROUT4 (hiz), 17 ROUT3 (hiz), 18 ROUT2 (hiz), 19 ROUT1 (hiz), 20 ROUT2B (out), 21 ~{INVALID} (out), 22 ~{FORCEOFF} (in), 23 FORCEON (in), 24 C1-, 25 GND (power), 26 VCC (power), 27 V+ (power), 28 C1+

## TRS3243IPW
designator U?
3-V to 5.5-V Multichannel RS-232 Line Driver / Receiver with ±15-kV ESD (HBM) Protection, -40 to 85 degC, 28-Pin TSSOP (PW), Green (RoHS & no Sb/Br); Drivers Per Package: 3; Receivers Per Package: 5; Supply Voltage(s)(V): 3.3 or 5.0; ESD HBM(kV): +/-15; ICC(Max)(mA): 1; Single Supply: TRUE; DatasheetVersion: SLLS806; PackageVersion: revG, Feb-2011; PackageReference: PW28; PackageDescription: 28-Pin Plastic Thin Small Outline Package 9.7 x 4.4 mm Body ,0.65 mm Pitch; SubFamily: RS-232; RS-232: TRUE; ComponentLink1Description: Manufacturer URL; ComponentLink1URL: www.ti.com; ComponentLink2Description: Datasheet; ComponentLink2URL: http://www.ti.com/general/docs/lit/getliterature.tsp?genericPartNumber=TRS3243&fileType=pdf; ComponentLink3Description: Package Specification; ComponentLink3URL: http://www.ti.com/litv/pdf/mpds364
footprint TI-PW28_N (TSOP, 28-Leads, Body 9.7x4.4mm, Pitch 0.65mm, IPC Medium Density)
footprint TI-PW28_L (TSOP, 28-Leads, Body 9.7x4.4mm, Pitch 0.65mm, IPC High Density)
footprint TI-PW28_M (TSOP, 28-Leads, Body 9.7x4.4mm, Pitch 0.65mm, IPC Low Density)
pins: 1 C2+, 2 C2-, 3 V- (power), 4 RIN1 (in), 5 RIN2 (in), 6 RIN3 (in), 7 RIN4 (in), 8 RIN5 (in), 9 DOUT1 (hiz), 10 DOUT2 (hiz), 11 DOUT3 (hiz), 12 DIN3 (in), 13 DIN2 (in), 14 DIN1 (in), 15 ROUT5 (hiz), 16 ROUT4 (hiz), 17 ROUT3 (hiz), 18 ROUT2 (hiz), 19 ROUT1 (hiz), 20 ROUT2B (out), 21 ~{INVALID} (out), 22 ~{FORCEOFF} (in), 23 FORCEON (in), 24 C1-, 25 GND (power), 26 VCC (power), 27 V+ (power), 28 C1+

## TRS3243IPWG4
designator U?
3-V to 5.5-V Multichannel RS-232 Line Driver / Receiver with ±15-kV ESD (HBM) Protection, -40 to 85 degC, 28-Pin TSSOP (PW), Green (RoHS & no Sb/Br); Drivers Per Package: 3; Receivers Per Package: 5; Supply Voltage(s)(V): 3.3 or 5.0; ESD HBM(kV): +/-15; ICC(Max)(mA): 1; Single Supply: TRUE; DatasheetVersion: SLLS806; PackageVersion: revG, Feb-2011; PackageReference: PW28; PackageDescription: 28-Pin Plastic Thin Small Outline Package 9.7 x 4.4 mm Body ,0.65 mm Pitch; SubFamily: RS-232; RS-232: TRUE; ComponentLink1Description: Manufacturer URL; ComponentLink1URL: www.ti.com; ComponentLink2Description: Datasheet; ComponentLink2URL: http://www.ti.com/general/docs/lit/getliterature.tsp?genericPartNumber=TRS3243&fileType=pdf; ComponentLink3Description: Package Specification; ComponentLink3URL: http://www.ti.com/litv/pdf/mpds364
footprint TI-PW28_N (TSOP, 28-Leads, Body 9.7x4.4mm, Pitch 0.65mm, IPC Medium Density)
footprint TI-PW28_L (TSOP, 28-Leads, Body 9.7x4.4mm, Pitch 0.65mm, IPC High Density)
footprint TI-PW28_M (TSOP, 28-Leads, Body 9.7x4.4mm, Pitch 0.65mm, IPC Low Density)
pins: 1 C2+, 2 C2-, 3 V- (power), 4 RIN1 (in), 5 RIN2 (in), 6 RIN3 (in), 7 RIN4 (in), 8 RIN5 (in), 9 DOUT1 (hiz), 10 DOUT2 (hiz), 11 DOUT3 (hiz), 12 DIN3 (in), 13 DIN2 (in), 14 DIN1 (in), 15 ROUT5 (hiz), 16 ROUT4 (hiz), 17 ROUT3 (hiz), 18 ROUT2 (hiz), 19 ROUT1 (hiz), 20 ROUT2B (out), 21 ~{INVALID} (out), 22 ~{FORCEOFF} (in), 23 FORCEON (in), 24 C1-, 25 GND (power), 26 VCC (power), 27 V+ (power), 28 C1+

## TRS3243IPWR
designator U?
3-V to 5.5-V Multichannel RS-232 Line Driver / Receiver with ±15-kV ESD (HBM) Protection, -40 to 85 degC, 28-Pin TSSOP (PW), Green (RoHS & no Sb/Br); Drivers Per Package: 3; Receivers Per Package: 5; Supply Voltage(s)(V): 3.3 or 5.0; ESD HBM(kV): +/-15; ICC(Max)(mA): 1; Single Supply: TRUE; DatasheetVersion: SLLS806; PackageVersion: revG, Feb-2011; PackageReference: PW28; PackageDescription: 28-Pin Plastic Thin Small Outline Package 9.7 x 4.4 mm Body ,0.65 mm Pitch; SubFamily: RS-232; RS-232: TRUE; ComponentLink1Description: Manufacturer URL; ComponentLink1URL: www.ti.com; ComponentLink2Description: Datasheet; ComponentLink2URL: http://www.ti.com/general/docs/lit/getliterature.tsp?genericPartNumber=TRS3243&fileType=pdf; ComponentLink3Description: Package Specification; ComponentLink3URL: http://www.ti.com/litv/pdf/mpds364
footprint TI-PW28_N (TSOP, 28-Leads, Body 9.7x4.4mm, Pitch 0.65mm, IPC Medium Density)
footprint TI-PW28_L (TSOP, 28-Leads, Body 9.7x4.4mm, Pitch 0.65mm, IPC High Density)
footprint TI-PW28_M (TSOP, 28-Leads, Body 9.7x4.4mm, Pitch 0.65mm, IPC Low Density)
pins: 1 C2+, 2 C2-, 3 V- (power), 4 RIN1 (in), 5 RIN2 (in), 6 RIN3 (in), 7 RIN4 (in), 8 RIN5 (in), 9 DOUT1 (hiz), 10 DOUT2 (hiz), 11 DOUT3 (hiz), 12 DIN3 (in), 13 DIN2 (in), 14 DIN1 (in), 15 ROUT5 (hiz), 16 ROUT4 (hiz), 17 ROUT3 (hiz), 18 ROUT2 (hiz), 19 ROUT1 (hiz), 20 ROUT2B (out), 21 ~{INVALID} (out), 22 ~{FORCEOFF} (in), 23 FORCEON (in), 24 C1-, 25 GND (power), 26 VCC (power), 27 V+ (power), 28 C1+

## TRS3243IPWRG4
designator U?
3-V to 5.5-V Multichannel RS-232 Line Driver / Receiver with ±15-kV ESD (HBM) Protection, -40 to 85 degC, 28-Pin TSSOP (PW), Green (RoHS & no Sb/Br); Drivers Per Package: 3; Receivers Per Package: 5; Supply Voltage(s)(V): 3.3 or 5.0; ESD HBM(kV): +/-15; ICC(Max)(mA): 1; Single Supply: TRUE; DatasheetVersion: SLLS806; PackageVersion: revG, Feb-2011; PackageReference: PW28; PackageDescription: 28-Pin Plastic Thin Small Outline Package 9.7 x 4.4 mm Body ,0.65 mm Pitch; SubFamily: RS-232; RS-232: TRUE; ComponentLink1Description: Manufacturer URL; ComponentLink1URL: www.ti.com; ComponentLink2Description: Datasheet; ComponentLink2URL: http://www.ti.com/general/docs/lit/getliterature.tsp?genericPartNumber=TRS3243&fileType=pdf; ComponentLink3Description: Package Specification; ComponentLink3URL: http://www.ti.com/litv/pdf/mpds364
footprint TI-PW28_N (TSOP, 28-Leads, Body 9.7x4.4mm, Pitch 0.65mm, IPC Medium Density)
footprint TI-PW28_L (TSOP, 28-Leads, Body 9.7x4.4mm, Pitch 0.65mm, IPC High Density)
footprint TI-PW28_M (TSOP, 28-Leads, Body 9.7x4.4mm, Pitch 0.65mm, IPC Low Density)
pins: 1 C2+, 2 C2-, 3 V- (power), 4 RIN1 (in), 5 RIN2 (in), 6 RIN3 (in), 7 RIN4 (in), 8 RIN5 (in), 9 DOUT1 (hiz), 10 DOUT2 (hiz), 11 DOUT3 (hiz), 12 DIN3 (in), 13 DIN2 (in), 14 DIN1 (in), 15 ROUT5 (hiz), 16 ROUT4 (hiz), 17 ROUT3 (hiz), 18 ROUT2 (hiz), 19 ROUT1 (hiz), 20 ROUT2B (out), 21 ~{INVALID} (out), 22 ~{FORCEOFF} (in), 23 FORCEON (in), 24 C1-, 25 GND (power), 26 VCC (power), 27 V+ (power), 28 C1+

## TRS3253EIRSMR
designator U?
RS-232 Transceiver with Split Supply Pin for Logic Side, -40 to 85 degC, 32-Pin VQFN (RSM), Green (RoHS & no Sb/Br); Drivers Per Package: 3; Receivers Per Package: 5; Supply Voltage(s)(V): 3.3 or 5.0 & 1.8; ESD HBM(kV): +/-15; ICC(Max)(mA): 1; RS-232: TRUE; DatasheetVersion: SLLS850B; PackageVersion: revB, Mar-2010; PackageReference: RSM32-2800X2800TP; PackageDescription: 32-Pin Plastic Quad Flat No-Lead, 4 x 4 mm Body, 0.4 mm Pitch, 2.8 x 2.8 mm Exposed Pad; SubFamily: RS-232; 1.8V SUPPORT: TRUE; IEC-61000-4-2 SUPPORT: TRUE; ComponentLink1Description: Manufacturer URL; ComponentLink1URL: www.ti.com; ComponentLink2Description: Datasheet; ComponentLink2URL: http://www.ti.com/general/docs/lit/getliterature.tsp?genericPartNumber=TRS3253E&fileType=pdf; ComponentLink3Description: Package Specification; ComponentLink3URL: http://www.ti.com/litv/pdf/mpqf195a
footprint TI-RSM32-2800X2800TP (QFN, 32-Leads, Body 4x4mm, Pitch 0.4mm, Thermal Pad 2.8x2.8mm, TI Recommended)
pins: 1 C2+ "Positive terminal of the voltage-doubler charge-pump capacitor", 2 C2- "Negative terminal of the voltage-doubler charge-pump capacitor", 3 V- (power) "-5.5-V supply generated by the charge pump", 4 DIN1 (in) "Driver inputs", 5 DIN2 (in) "Driver inputs", 6 ~{INVALID} (out) "Invalid Output Pin", 7 DIN3 (in) "Driver inputs", 8 NC "No internal connection", 9 FORCEON (in) "Powerdown Control input (Refer to Truth Table)", 10 ROUT5 (hiz) "Receiver outputs. Swing between 0 and VL.", 11 ROUT4 (hiz) "Receiver outputs. Swing between 0 and VL.", 12 ROUT3 (hiz) "Receiver outputs. Swing between 0 and VL.", 13 ROUT2 (hiz) "Receiver outputs. Swing between 0 and VL.", 14 ROUT1 (hiz) "Receiver outputs. Swing between 0 and VL.", 15 VL (power) "Logic-level supply. All CMOS inputs and outputs are referenced to this supply.", 16 NC "No internal connection", 17 RIN5 (in) "RS-232 receiver inputs", 18 RIN4 (in) "RS-232 receiver inputs", 19 RIN3 (in) "RS-232 receiver inputs", 20 RIN2 (in) "RS-232 receiver inputs", 21 RIN1 (in) "RS-232 receiver inputs", 22 DOUT3 (hiz) "RS-232 driver outputs", 23 DOUT2 (hiz) "RS-232 driver outputs", 24 NC "No internal connection", 25 DOUT1 (hiz) "RS-232 driver outputs", 26 GND (power) "Ground", 27 VCC (power) "3-V to 5.5-V supply voltage", 28 ~{FORCEOFF} (in) "Powerdown Control input (Refer to Truth Table)", 29 C1+ "Positive terminal of the voltage-doubler charge-pump capacitor", 30 V+ (power) "5.5-V supply generated by the charge pump", 31 C1- "Negative terminal of the voltage-doubler charge-pump capacitor", 32 NC "No internal connection", 33 EP (power) "EXPOSED THERMAL PAD"

## TRS3318CDB
designator U?
2.5-V 460-kbps RS-232 Transceiver with ±15-kV ESD Protection, 0 to 70 degC, 20-Pin SSOP (DB), Green (RoHS & no Sb/Br); Drivers Per Package: 2; Supply Voltage(s)(V): 2.25 to 3.0; ESD HBM(kV): +/-15; Single Supply: TRUE; DatasheetVersion: SLLS820; PackageVersion: revE, Dec-2001; PackageReference: DB20; PackageDescription: 20-Pin Plastic Small Outline Package, 7.2 x 5.3 mm Body, 0.65 mm Pitch; SubFamily: RS-232; Receivers Per Package: 2; ICC(Max)(mA): 2; RS-232: TRUE; ComponentLink1Description: Manufacturer URL; ComponentLink1URL: www.ti.com; ComponentLink2Description: Datasheet; ComponentLink2URL: http://www.ti.com/general/docs/lit/getliterature.tsp?genericPartNumber=TRS3318&fileType=pdf; ComponentLink3Description: Package Specification; ComponentLink3URL: http://www.ti.com/litv/pdf/msso002e
footprint TI-DB20_N (SOP, 20-Leads, Body 7.2x5.3mm, Pitch 0.65mm, IPC Medium Density)
footprint TI-DB20_L (SOP, 20-Leads, Body 7.2x5.3mm, Pitch 0.65mm, IPC High Density)
footprint TI-DB20_M (SOP, 20-Leads, Body 7.2x5.3mm, Pitch 0.65mm, IPC Low Density)
pins: 1 READY (out) "Ready to transmit output, active high. READY is enabled high when V- goes below -3.5 V and the device is ready to transmit.", 2 C1+ "Positive voltage-doubler charge-pump capacitor", 3 V+ (power) "2 x VCC generated by the charge pump", 4 C1- "Negative voltage-doubler charge-pump capacitor", 5 C2+ "Positive inverting charge-pump capacitor", 6 C2- "Negative inverting charge-pump capacitor", 7 V- (power) "-2 x VCC generated by the charge pump", 8 DOUT2 (hiz) "RS-232 driver outputs", 9 RIN2 (in) "RS-232 receiver inputs", 10 ROUT2 (out) "CMOS receiver outputs", 11 ~{INVALID} (out) "Valid signal detector output, active low. A logic high indicates that a valid RS-232 level is present on a receiver input.", 12 DIN2 (in) "CMOS driver inputs", 13 DIN1 (in) "CMOS driver inputs", 14 FORCEON (in) "Force-on input, active high. Drive high to override auto-powerdown, keeping transmitters and receivers on (F\O\R\C\E\O\F\F must be high) (see Function Table)", 15 ROUT1 (out) "CMOS receiver outputs", 16 RIN1 (in) "RS-232 receiver inputs", 17 DOUT1 (hiz) "RS-232 driver outputs", 18 GND (power) "Ground", 19 VCC (power) "2.25-V to 3-V single-supply voltage", 20 ~{FORCEOFF} (in) "Force-off input,active low.Drive low to power down transmitters, receivers, and charge pump. This overrides auto-powerdown and FORCEON (see Function Table)"

## TRS3318CDBG4
designator U?
2.5-V 460-kbps RS-232 Transceiver with ±15-kV ESD Protection, 0 to 70 degC, 20-Pin SSOP (DB), Green (RoHS & no Sb/Br); Drivers Per Package: 2; Supply Voltage(s)(V): 2.25 to 3.0; ESD HBM(kV): +/-15; Single Supply: TRUE; DatasheetVersion: SLLS820; PackageVersion: revE, Dec-2001; PackageReference: DB20; PackageDescription: 20-Pin Plastic Small Outline Package, 7.2 x 5.3 mm Body, 0.65 mm Pitch; SubFamily: RS-232; Receivers Per Package: 2; ICC(Max)(mA): 2; RS-232: TRUE; ComponentLink1Description: Manufacturer URL; ComponentLink1URL: www.ti.com; ComponentLink2Description: Datasheet; ComponentLink2URL: http://www.ti.com/general/docs/lit/getliterature.tsp?genericPartNumber=TRS3318&fileType=pdf; ComponentLink3Description: Package Specification; ComponentLink3URL: http://www.ti.com/litv/pdf/msso002e
footprint TI-DB20_N (SOP, 20-Leads, Body 7.2x5.3mm, Pitch 0.65mm, IPC Medium Density)
footprint TI-DB20_L (SOP, 20-Leads, Body 7.2x5.3mm, Pitch 0.65mm, IPC High Density)
footprint TI-DB20_M (SOP, 20-Leads, Body 7.2x5.3mm, Pitch 0.65mm, IPC Low Density)
pins: 1 READY (out) "Ready to transmit output, active high. READY is enabled high when V- goes below -3.5 V and the device is ready to transmit.", 2 C1+ "Positive voltage-doubler charge-pump capacitor", 3 V+ (power) "2 x VCC generated by the charge pump", 4 C1- "Negative voltage-doubler charge-pump capacitor", 5 C2+ "Positive inverting charge-pump capacitor", 6 C2- "Negative inverting charge-pump capacitor", 7 V- (power) "-2 x VCC generated by the charge pump", 8 DOUT2 (hiz) "RS-232 driver outputs", 9 RIN2 (in) "RS-232 receiver inputs", 10 ROUT2 (out) "CMOS receiver outputs", 11 ~{INVALID} (out) "Valid signal detector output, active low. A logic high indicates that a valid RS-232 level is present on a receiver input.", 12 DIN2 (in) "CMOS driver inputs", 13 DIN1 (in) "CMOS driver inputs", 14 FORCEON (in) "Force-on input, active high. Drive high to override auto-powerdown, keeping transmitters and receivers on (F\O\R\C\E\O\F\F must be high) (see Function Table)", 15 ROUT1 (out) "CMOS receiver outputs", 16 RIN1 (in) "RS-232 receiver inputs", 17 DOUT1 (hiz) "RS-232 driver outputs", 18 GND (power) "Ground", 19 VCC (power) "2.25-V to 3-V single-supply voltage", 20 ~{FORCEOFF} (in) "Force-off input,active low.Drive low to power down transmitters, receivers, and charge pump. This overrides auto-powerdown and FORCEON (see Function Table)"

## TRS3318CDBR
designator U?
2.5-V 460-kbps RS-232 Transceiver with ±15-kV ESD Protection, 0 to 70 degC, 20-Pin SSOP (DB), Green (RoHS & no Sb/Br); Drivers Per Package: 2; Supply Voltage(s)(V): 2.25 to 3.0; ESD HBM(kV): +/-15; Single Supply: TRUE; DatasheetVersion: SLLS820; PackageVersion: revE, Dec-2001; PackageReference: DB20; PackageDescription: 20-Pin Plastic Small Outline Package, 7.2 x 5.3 mm Body, 0.65 mm Pitch; SubFamily: RS-232; Receivers Per Package: 2; ICC(Max)(mA): 2; RS-232: TRUE; ComponentLink1Description: Manufacturer URL; ComponentLink1URL: www.ti.com; ComponentLink2Description: Datasheet; ComponentLink2URL: http://www.ti.com/general/docs/lit/getliterature.tsp?genericPartNumber=TRS3318&fileType=pdf; ComponentLink3Description: Package Specification; ComponentLink3URL: http://www.ti.com/litv/pdf/msso002e
footprint TI-DB20_N (SOP, 20-Leads, Body 7.2x5.3mm, Pitch 0.65mm, IPC Medium Density)
footprint TI-DB20_L (SOP, 20-Leads, Body 7.2x5.3mm, Pitch 0.65mm, IPC High Density)
footprint TI-DB20_M (SOP, 20-Leads, Body 7.2x5.3mm, Pitch 0.65mm, IPC Low Density)
pins: 1 READY (out) "Ready to transmit output, active high. READY is enabled high when V- goes below -3.5 V and the device is ready to transmit.", 2 C1+ "Positive voltage-doubler charge-pump capacitor", 3 V+ (power) "2 x VCC generated by the charge pump", 4 C1- "Negative voltage-doubler charge-pump capacitor", 5 C2+ "Positive inverting charge-pump capacitor", 6 C2- "Negative inverting charge-pump capacitor", 7 V- (power) "-2 x VCC generated by the charge pump", 8 DOUT2 (hiz) "RS-232 driver outputs", 9 RIN2 (in) "RS-232 receiver inputs", 10 ROUT2 (out) "CMOS receiver outputs", 11 ~{INVALID} (out) "Valid signal detector output, active low. A logic high indicates that a valid RS-232 level is present on a receiver input.", 12 DIN2 (in) "CMOS driver inputs", 13 DIN1 (in) "CMOS driver inputs", 14 FORCEON (in) "Force-on input, active high. Drive high to override auto-powerdown, keeping transmitters and receivers on (F\O\R\C\E\O\F\F must be high) (see Function Table)", 15 ROUT1 (out) "CMOS receiver outputs", 16 RIN1 (in) "RS-232 receiver inputs", 17 DOUT1 (hiz) "RS-232 driver outputs", 18 GND (power) "Ground", 19 VCC (power) "2.25-V to 3-V single-supply voltage", 20 ~{FORCEOFF} (in) "Force-off input,active low.Drive low to power down transmitters, receivers, and charge pump. This overrides auto-powerdown and FORCEON (see Function Table)"

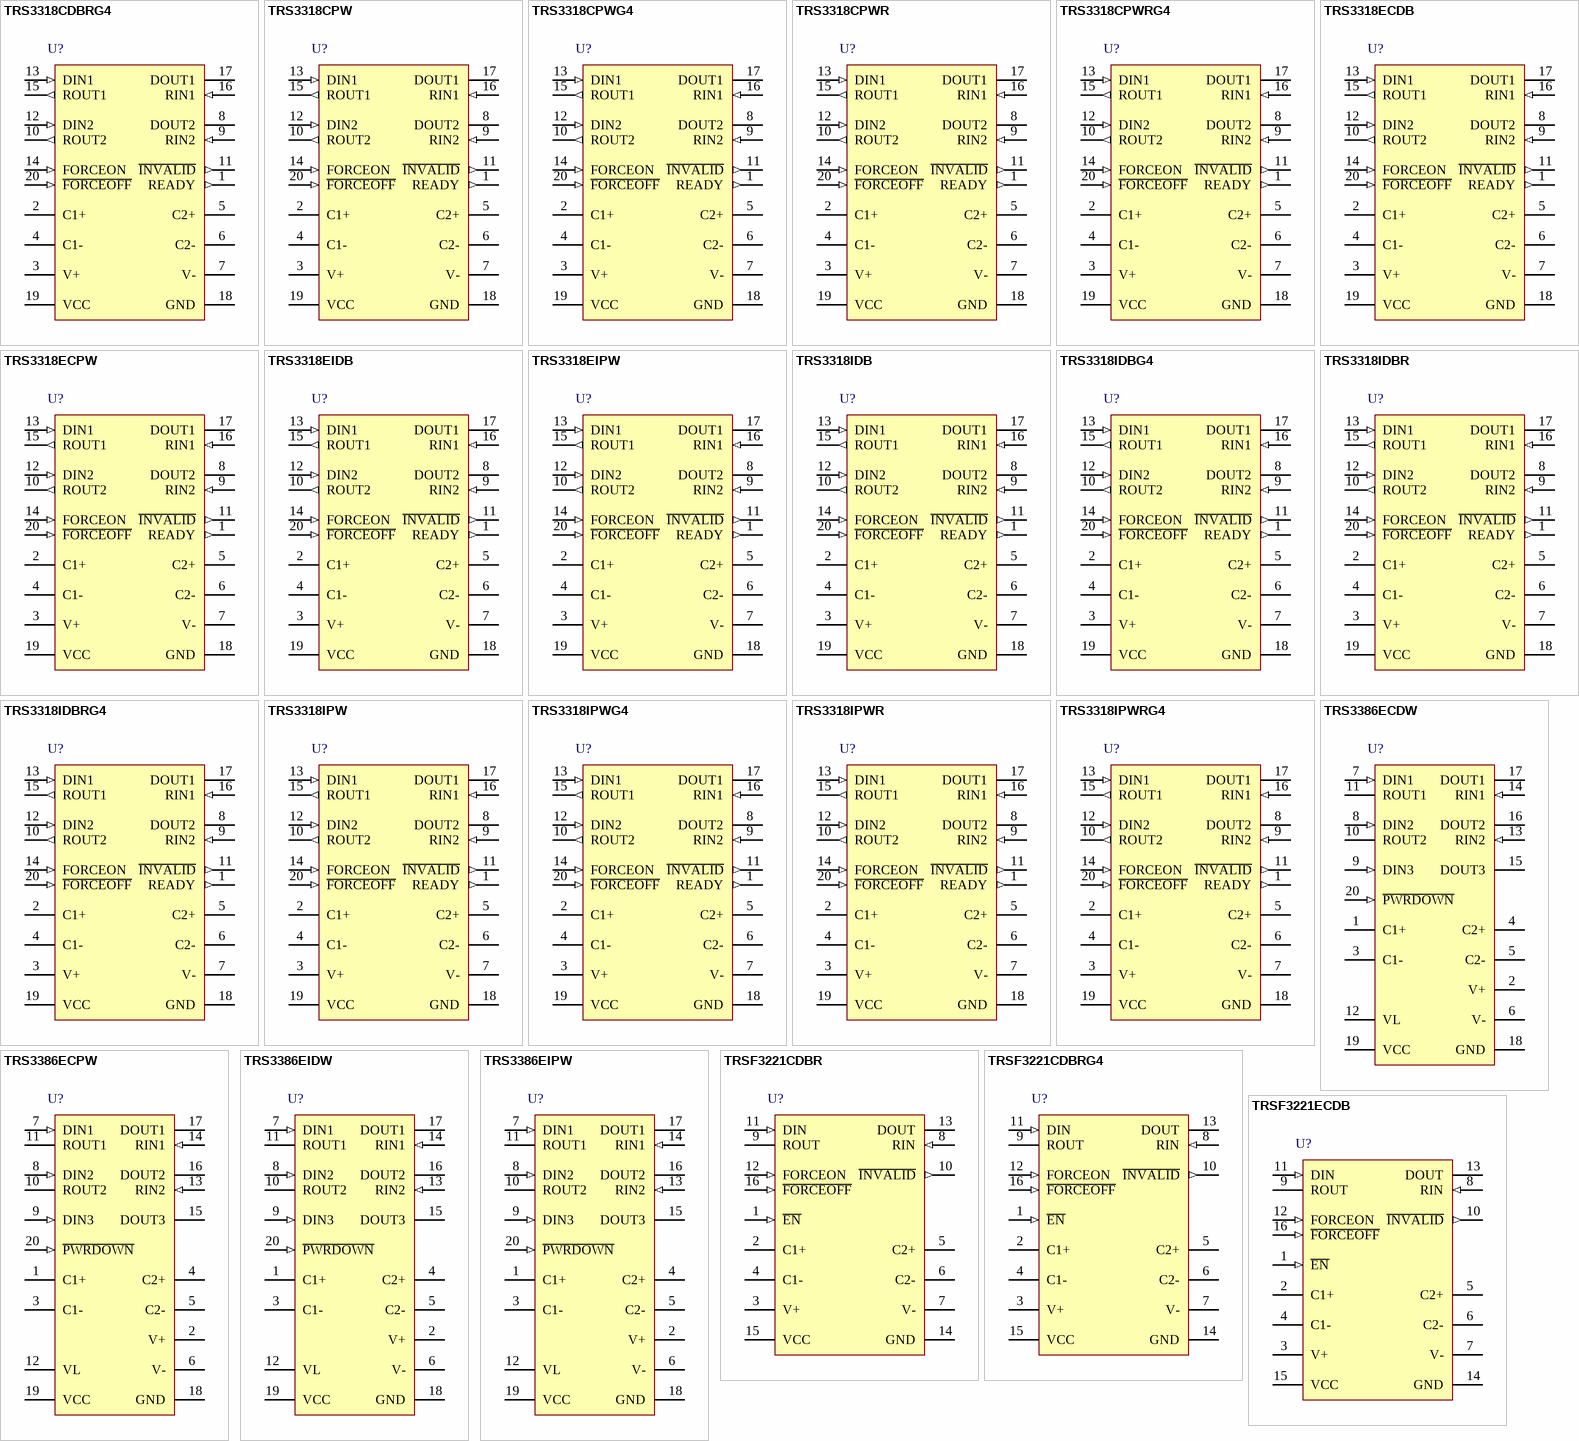
[diagram p51: symbols TRS3318CDBRG4 to TRSF3221ECDB]

## TRS3318CDBRG4
designator U?
2.5-V 460-kbps RS-232 Transceiver with ±15-kV ESD Protection, 0 to 70 degC, 20-Pin SSOP (DB), Green (RoHS & no Sb/Br); Drivers Per Package: 2; Supply Voltage(s)(V): 2.25 to 3.0; ESD HBM(kV): +/-15; Single Supply: TRUE; DatasheetVersion: SLLS820; PackageVersion: revE, Dec-2001; PackageReference: DB20; PackageDescription: 20-Pin Plastic Small Outline Package, 7.2 x 5.3 mm Body, 0.65 mm Pitch; SubFamily: RS-232; Receivers Per Package: 2; ICC(Max)(mA): 2; RS-232: TRUE; ComponentLink1Description: Manufacturer URL; ComponentLink1URL: www.ti.com; ComponentLink2Description: Datasheet; ComponentLink2URL: http://www.ti.com/general/docs/lit/getliterature.tsp?genericPartNumber=TRS3318&fileType=pdf; ComponentLink3Description: Package Specification; ComponentLink3URL: http://www.ti.com/litv/pdf/msso002e
footprint TI-DB20_N (SOP, 20-Leads, Body 7.2x5.3mm, Pitch 0.65mm, IPC Medium Density)
footprint TI-DB20_L (SOP, 20-Leads, Body 7.2x5.3mm, Pitch 0.65mm, IPC High Density)
footprint TI-DB20_M (SOP, 20-Leads, Body 7.2x5.3mm, Pitch 0.65mm, IPC Low Density)
pins: 1 READY (out) "Ready to transmit output, active high. READY is enabled high when V- goes below -3.5 V and the device is ready to transmit.", 2 C1+ "Positive voltage-doubler charge-pump capacitor", 3 V+ (power) "2 x VCC generated by the charge pump", 4 C1- "Negative voltage-doubler charge-pump capacitor", 5 C2+ "Positive inverting charge-pump capacitor", 6 C2- "Negative inverting charge-pump capacitor", 7 V- (power) "-2 x VCC generated by the charge pump", 8 DOUT2 (hiz) "RS-232 driver outputs", 9 RIN2 (in) "RS-232 receiver inputs", 10 ROUT2 (out) "CMOS receiver outputs", 11 ~{INVALID} (out) "Valid signal detector output, active low. A logic high indicates that a valid RS-232 level is present on a receiver input.", 12 DIN2 (in) "CMOS driver inputs", 13 DIN1 (in) "CMOS driver inputs", 14 FORCEON (in) "Force-on input, active high. Drive high to override auto-powerdown, keeping transmitters and receivers on (F\O\R\C\E\O\F\F must be high) (see Function Table)", 15 ROUT1 (out) "CMOS receiver outputs", 16 RIN1 (in) "RS-232 receiver inputs", 17 DOUT1 (hiz) "RS-232 driver outputs", 18 GND (power) "Ground", 19 VCC (power) "2.25-V to 3-V single-supply voltage", 20 ~{FORCEOFF} (in) "Force-off input,active low.Drive low to power down transmitters, receivers, and charge pump. This overrides auto-powerdown and FORCEON (see Function Table)"